# Altium footprint library 630701.PcbLib: 6 footprints
Each footprint in its own frame and in the unit in brackets; x right, y up, seen from the top. Pads: shape width x height; smd on the part's side, far side on the other; paste and mask are expansions set on the pad; w line width, h text height; cw(c..) or ccw(c..) is an arc to the next point about the centre after c.
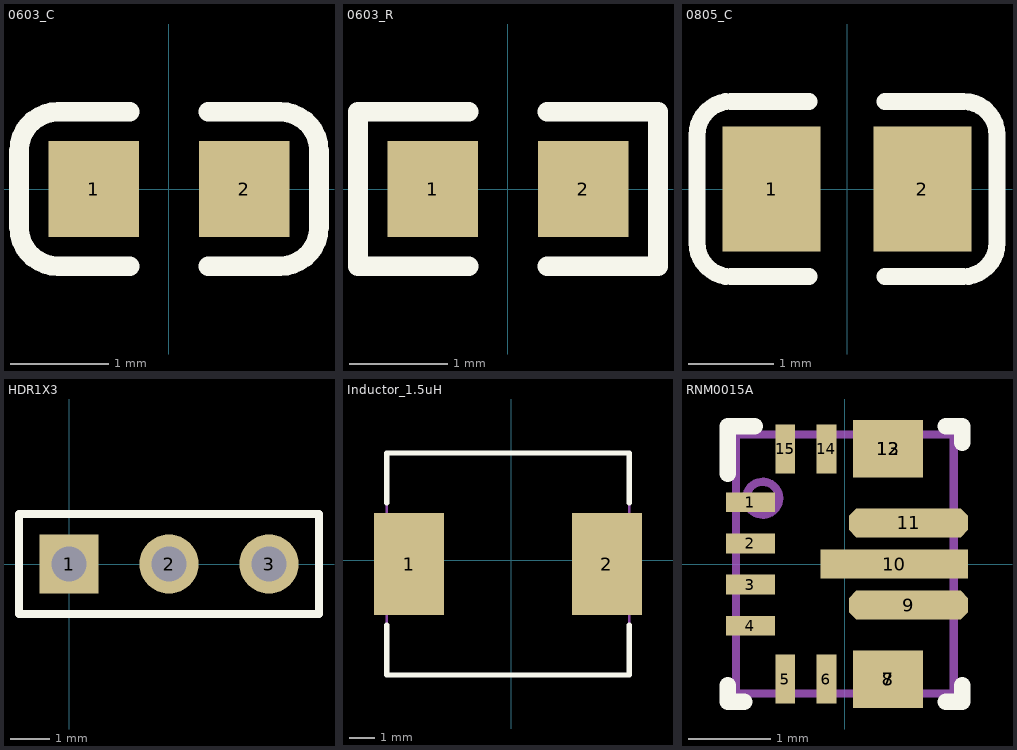
[diagram p0: the footprints below, top view; thin cyan lines are the x and y axes]

## 0603_C [mm]
pads (2):
  rect 0.93x0.98 smd: 1(-0.77,0) 2(0.77,0)
Top Overlay:
  lines w0.2: -0.4,-0.79 -1.135,-0.79 cw(c-1.135,-0.39) -1.535,-0.39 -1.535,0.39 cw(c-1.135,0.39) -1.135,0.79 -0.4,0.79 ; 0.4,-0.79 1.135,-0.79 ccw(c1.135,-0.39) 1.535,-0.39 1.535,0.39 ccw(c1.135,0.39) 1.135,0.79 0.4,0.79
3D body "User Library-0603 SMD Capacitor.STEP": height 0.3, standoff 0, extent -0.8,-0.4 0.8,0.4

## 0603_R [mm]
pads (2):
  rect 0.93x0.98 smd: 1(-0.77,0) 2(0.77,0)
Top Overlay:
  lines w0.2: -0.4,-0.79 -1.535,-0.79 -1.535,0.79 -0.4,0.79 ; 0.4,-0.79 1.535,-0.79 1.535,0.79 0.4,0.79
3D body "User Library-RES_1609-0603.STEP": height 0.56, standoff 0, extent -0.85,-0.4 0.85,0.4

## 0805_C [mm]
pads (2):
  rect 1.16x1.47 smd: 1(-0.89,0) 2(0.89,0)
Top Overlay:
  lines w0.2: -0.45,-1.035 -1.37,-1.035 cw(c-1.37,-0.635) -1.77,-0.635 -1.77,0.635 cw(c-1.37,0.635) -1.37,1.035 -0.45,1.035 ; 0.45,-1.035 1.37,-1.035 ccw(c1.37,-0.635) 1.77,-0.635 1.77,0.635 ccw(c1.37,0.635) 1.37,1.035 0.45,1.035
3D body "User Library-0805 SMD Capacitor.STEP": height 0.77, standoff -0.01, extent -0.999,-0.625 1.001,0.625

## HDR1X3 [mm] "Connector; Header; 3 Position"
pads (3):
  rect 1.5x1.5 hole 0.9: 1(0,0)
  round 1.5 hole 0.9: 2(2.54,0) 3(5.08,0)
Top Overlay:
  lines w0.2: -1.27,-1.27 6.35,-1.27 6.35,1.27 -1.27,1.27 -1.27,-1.27

## Inductor_1.5uH [mm]
pads (2):
  rect 2.75x4 smd: 1(-4.002,-0.152) 2(3.748,-0.152)
Top Overlay:
  lines w0.2: -4.877,-2.552 -4.877,-4.502 4.623,-4.502 4.623,-2.552 ; -4.877,2.248 -4.877,4.198 4.623,4.198 4.623,2.248
Mechanical 5:
  lines w0.1: -4.877,-4.502 4.623,-4.502 4.623,4.198 -4.877,4.198 -4.877,-4.502
3D body: height 3, standoff 0.01, extent -4.877,-4.502 4.623,4.198

## RNM0015A [mm]
pads (15):
  rect 0.6x0.24 smd paste+0 mask+0.051: 1(-1.15,0.75) 2(-1.15,0.25) 3(-1.15,-0.25) 4(-1.15,-0.75)
  rect 0.24x0.6 smd paste+0 mask+0.051: 5(-0.725,-1.4) 6(-0.225,-1.4) 14(-0.225,1.4) 15(-0.725,1.4)
  rect 0.85x0.7 smd paste-0.35 mask-0.356: 7(0.525,-1.4) 8(0.525,-1.4) 12(0.525,1.4) 13(0.525,1.4)
  oct 1.45x0.35 smd paste-0.712 mask-0.051: 9(0.775,-0.5) 11(0.775,0.5)
  rect 1.8x0.35 smd paste-0.887 mask-0.051: 10(0.6,0)
Top Overlay:
  lines w0.2: -1.425,-1.475 -1.425,-1.675 -1.225,-1.675 ; -1.425,1.1 -1.425,1.675 -1.1,1.675 ; 1.225,-1.675 1.425,-1.675 1.425,-1.475 ; 1.225,1.675 1.425,1.675 1.425,1.475
Top Paste:
  drawing of 12 lines, arcs and shapes, not listed
Top Solder:
  drawing of 6 lines, arcs and shapes, not listed
Mechanical 13:
  circle w0.1: c-1,0.8 r0.2
  lines w0.1: -1.325,-1.575 -1.325,1.575 1.325,1.575 1.325,-1.575 -1.325,-1.575
3D body "RNM0015A.stp": height 1, standoff 0, extent -1.25,-1.5 1.25,1.5
3D body: height 0.25, standoff 0, extent 0,0 0.254,0.254